# Altium schematic symbol library k7sch6.SchLib: 4 symbols
Pins are listed as number, name and electrical type; pins without a type are passive.

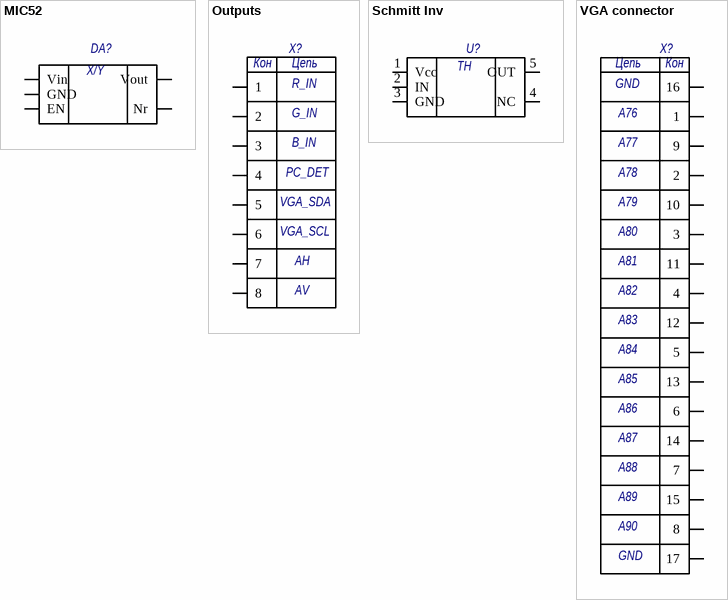
[diagram p0: symbols MIC52 to VGA connector]

## MIC52
designator DA?  (value not drawn)
footprint MIC5205
pins: 1 Vin, 2 GND, 3 EN, 4 Nr, 5 Vout
text: X/Y

## Outputs
designator X?  (value not drawn)
footprint Outputs
pins: 1, 2, 3, 4, 5, 6, 7, 8
text: Кон; Цепь; R_IN; G_IN; B_IN; PC_DET; VGA_SDA; VGA_SCL; AH; AV

## Schmitt Inv
designator U?  (value not drawn)
footprint MIC5205
pins: 1 Vcc, 2 IN, 3 GND, 4 NC, 5 OUT
text: TH

## VGA connector
designator X?  (value not drawn)
footprint VGA Connector
pins: 1, 2, 3, 4, 5, 6, 7, 8, 9, 10, 11, 12, 13, 14, 15, 16, 17
text: Цепь; Кон; GND; A76; A77; A78; A79; A80; A81; A82; A83; A84; A85; A86; A87; A88; A89; A90